# Altium integrated library Linear Technology Power Management Battery Management.IntLib: 626 symbols (part 42 of 56)
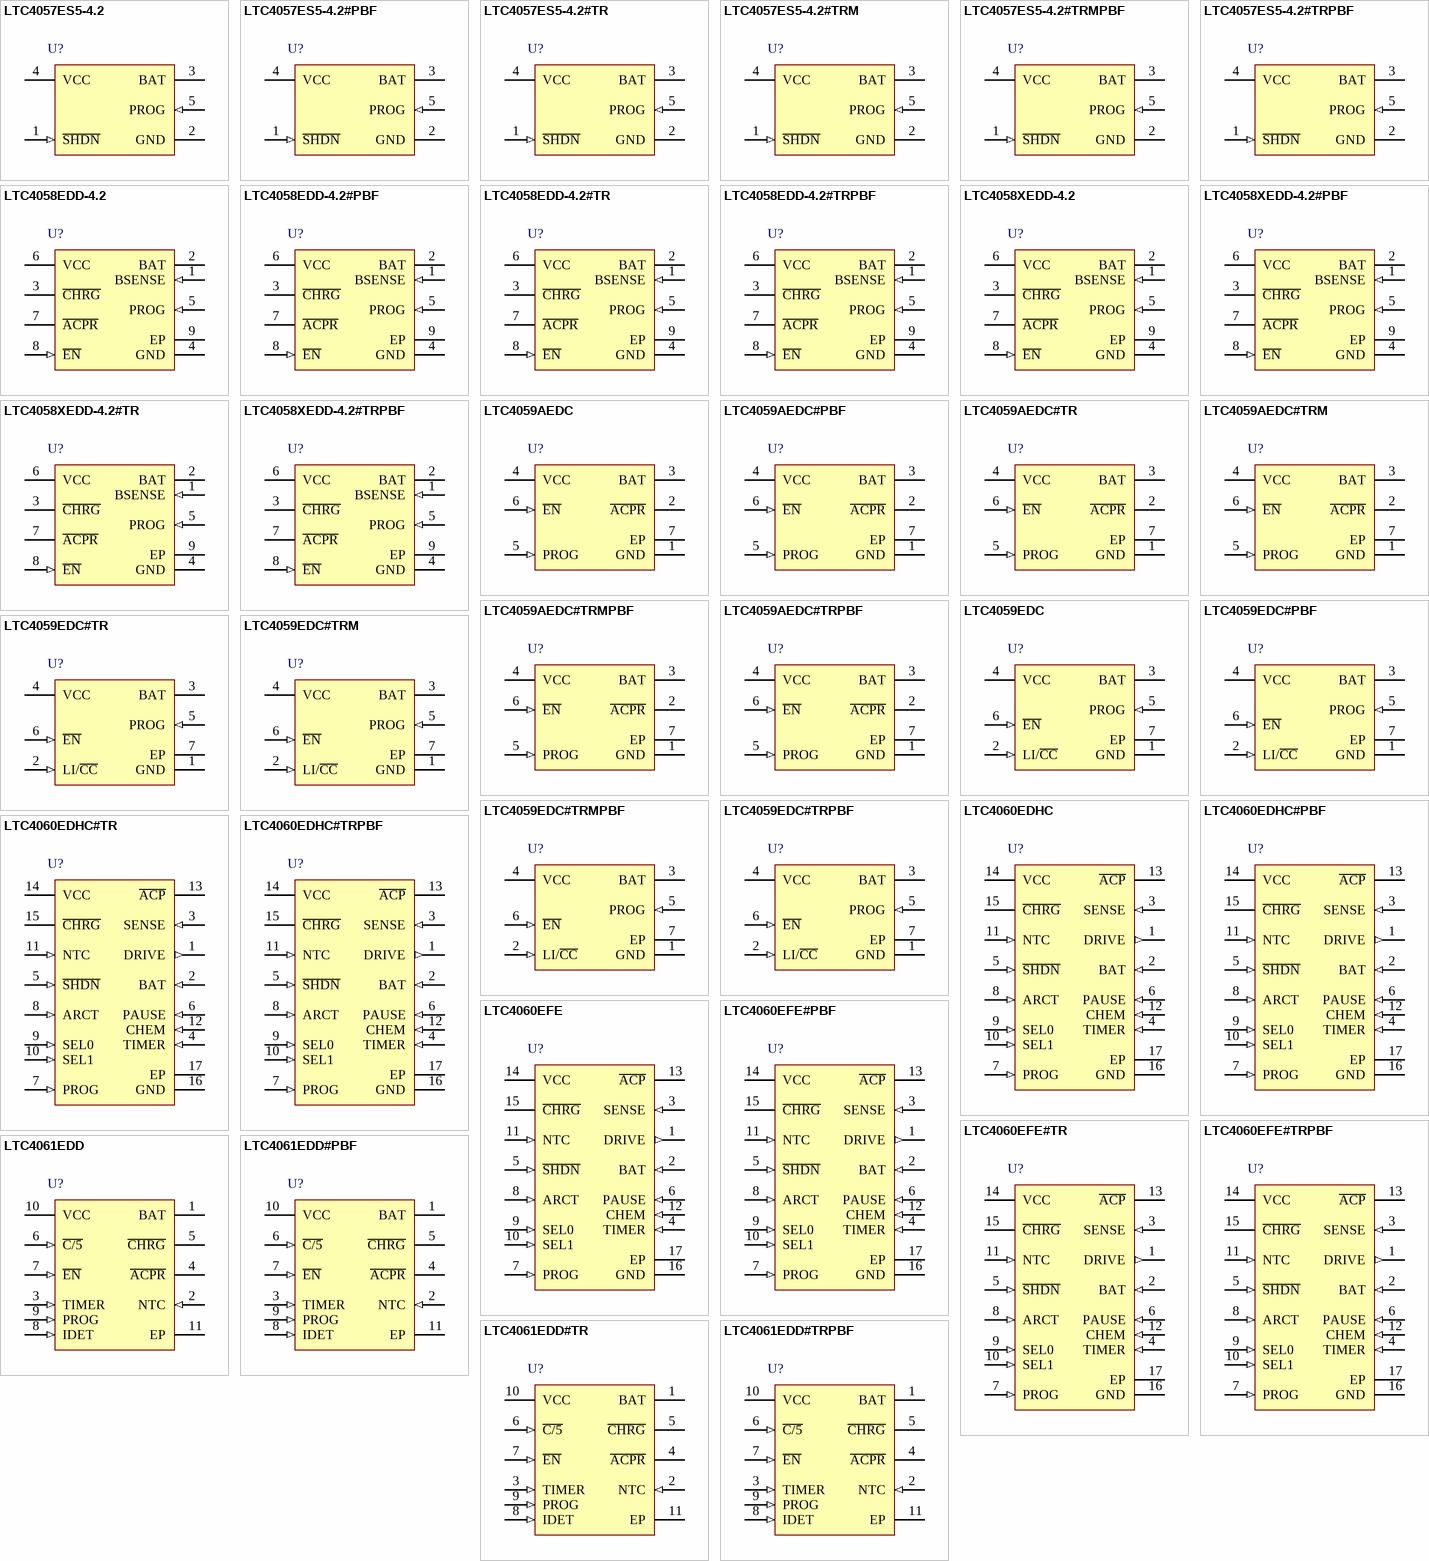
[diagram p63: symbols LTC4057ES5-4.2 to LTC4061EDD#TRPBF]

## LTC4060EDHC#TRPBF
designator U?
Standalone Linear NiMH / NiCd Fast Battery Charger, 4.5 to 10 V Vin, 16-pin SON (DHC-16), -40 to 85 degC, Pb-Free, Tape and Reel; Manufacturer: Linear Technology; PartNumber: LTC4060EDHC#TRPBF; Battery Chemistry: NiCd, NiMH, Lead Acid; Float Voltage: Adj; Max Charge Current(A): 2; Number of Cells: 1 to 4; Vin Max(V): 10; Vin Min(V): 4.5; PackageVersion: Jun-10; PackageReference: DHC-16; PackageDescription: 16-Pin Plastic DFN, Body 5 x 3 mm, Pitch 0.5 mm; Supplier 1: Digi-Key; Supplier Part Number 1: LTC4060EDHC#TRPBF-ND; Supplier 2: Newark; Supplier Part Number 2: 58M0888; Packing: Tape and Reel; RoHS: TRUE; Type of Charger: Linear; Mounting Technology: Surface Mount; Code_JEDEC: MO-229; ComponentLink1Description: Manufacturer URL; ComponentLink1URL: http://www.linear.com/; ComponentLink2Description: Datasheet; ComponentLink2URL: http://cds.linear.com/docs/en/datasheet/4060f.pdf; ComponentLink3Description: Package Specification; ComponentLink3URL: http://cds.linear.com/docs/en/packaging/DFN_16_05-08-1706.pdf
footprint LT-DHC-16_V (SON, 16-Leads, Body 5x3mm, Pitch 0.5mm, Thermal Pad 4.4X1.65mm)
pins: 1 DRIVE (out) "Base Drive Output for the External PNP Pass Transistor. Provides a controlled sink current that drives the base of the PNP. This pin has current limit protection for the LTC4060.", 2 BAT (in) "Battery Voltage Sense Input Pin. The LTC4060 uses the voltage on this pin to monitor battery voltage and control the battery current during charging. An internal resistor divider is connected to this pin which is (See Datasheet)", 3 SENSE (in) "Charge Current Sense Node Input. Current from VCC passes through the internal current sense resistor and reappears at the SENSE pin to supply current to the external PNP emitter. The PNP collector provides charge current (See Datasheet)", 4 TIMER (in) "Charge Timer Input. A capacitor connected between TIMER and GND along with a resistor connected from PROG to GND programs the charge cycle timing limits.", 5 ~{SHDN} (in) "Active Low Shutdown Control Logic Input. When pulled low, charging stops and the LTC4060 supply current is minimized.", 6 PAUSE (in) "Pause Enable Logic Input. The charger can be paused, turning off the charge current, disabling termination and stopping the timer when this pin is high. A low level will resume the charging process.", 7 PROG (in) "Charge Current Programming Input. Provides a virtual reference of 1.5V for an external resistor (RPROG) tied between this pin and GND that programs the battery charge current. The fast charge current will be 930 times the (See Datasheet)", 8 ARCT (in) "Autorecharge Threshold Programming Input. When the average cell voltage falls below this threshold, charging is reinitiated. The voltage on this pin is conveniently derived by using two series PROG pin resistors and (See Datasheet)", 9 SEL0 (in) "Number of Cells Selection Logic Input. For single cell, connect both pins to GND. For two cells, connect SEL1 to GND and SEL0 to VCC. For three cells, SEL1 connects to VCC and SEL0 to GND. For four cells, connect both pins (See Datasheet)", 10 SEL1 (in) "Number of Cells Selection Logic Input. For single cell, connect both pins to GND. For two cells, connect SEL1 to GND and SEL0 to VCC. For three cells, SEL1 connects to VCC and SEL0 to GND. For four cells, connect both pins (See Datasheet)", 11 NTC (in) "Battery Temperature Input. An external NTC thermistor network may be connected to NTC to provide temperature-based charge qualification. Connecting NTC to GND inhibits this function.", 12 CHEM (in) "Battery Chemistry Selection Logic Input. When connected to a high level NiCd fast charge -deltaV termination parameters are used. A low level selects NiMH parameters.", 13 ~{ACP} (hiz) "Open-Drain Power Supply Status Output. When VCC is greater than the undervoltage lockout threshold, the A\C\P\ pin will pull to ground. Otherwise the pin is high impedance. This output is capable of driving an LED.", 14 VCC (power) "Power Input. This pin can be bypassed to ground with a capacitance of 1uF.", 15 ~{CHRG} (hiz) "Open-Drain Charge Indicator Status Output. The LTC4060 indicates it is providing charge to the battery by driving this pin to GND. If charging is paused or suspended due to abnormal battery temperature, the pin remains (See Datasheet)", 16 GND (power) "Ground. This pin provides a ground for the internal voltage reference and other circuits. All voltage thresholds are referenced to this pin.", 17 EP (power) "Thermal Connection. Internally connected to GND. Solder to PCB ground for optimum thermal performance."

## LTC4060EFE
designator U?
Standalone Linear NiMH / NiCd Fast Battery Charger, 4.5 to 10 V Vin, 16-pin SOP (FE-16-EPV-BC), -40 to 85 degC; Manufacturer: Linear Technology; PartNumber: LTC4060EFE; Battery Chemistry: NiCd, NiMH, Lead Acid; Float Voltage: Adj; Max Charge Current(A): 2; Number of Cells: 1 to 4; Vin Max(V): 10; Vin Min(V): 4.5; PackageVersion: Rev. J, 11/2012; PackageReference: FE-16; PackageDescription: 16-Pin Plastic TSSOP, Body 5 x 4.4 mm, Pitch 0.65 mm; Supplier 1: Newark; Supplier Part Number 1: 56M8671; RoHS: FALSE; Type of Charger: Linear; Mounting Technology: Surface Mount; ComponentLink1Description: Manufacturer URL; ComponentLink1URL: http://www.linear.com/; ComponentLink2Description: Datasheet; ComponentLink2URL: http://cds.linear.com/docs/en/datasheet/4060f.pdf; ComponentLink3Description: Package Specification; ComponentLink3URL: http://cds.linear.com/docs/en/packaging/05081663__J_FE16(BC).pdf
footprint LT-FE-16-EPV-BC_N (SOP, 16-Leads, Body 5.1x4.5mm, Pitch 0.65mm, Thermal Pad 3.58x2.94mm, IPC Medium Density)
footprint LT-FE-16-EPV-BC_L (SOP, 16-Leads, Body 5.1x4.5mm, Pitch 0.65mm, Thermal Pad 3.58x2.94mm, IPC High Density)
footprint LT-FE-16-EPV-BC_M (SOP, 16-Leads, Body 5.1x4.5mm, Pitch 0.65mm, Thermal Pad 3.58x2.94mm, IPC Low Density)
pins: 1 DRIVE (out) "Base Drive Output for the External PNP Pass Transistor. Provides a controlled sink current that drives the base of the PNP. This pin has current limit protection for the LTC4060.", 2 BAT (in) "Battery Voltage Sense Input Pin. The LTC4060 uses the voltage on this pin to monitor battery voltage and control the battery current during charging. An internal resistor divider is connected to this pin which is (See Datasheet)", 3 SENSE (in) "Charge Current Sense Node Input. Current from VCC passes through the internal current sense resistor and reappears at the SENSE pin to supply current to the external PNP emitter. The PNP collector provides charge current (See Datasheet)", 4 TIMER (in) "Charge Timer Input. A capacitor connected between TIMER and GND along with a resistor connected from PROG to GND programs the charge cycle timing limits.", 5 ~{SHDN} (in) "Active Low Shutdown Control Logic Input. When pulled low, charging stops and the LTC4060 supply current is minimized.", 6 PAUSE (in) "Pause Enable Logic Input. The charger can be paused, turning off the charge current, disabling termination and stopping the timer when this pin is high. A low level will resume the charging process.", 7 PROG (in) "Charge Current Programming Input. Provides a virtual reference of 1.5V for an external resistor (RPROG) tied between this pin and GND that programs the battery charge current. The fast charge current will be 930 times the (See Datasheet)", 8 ARCT (in) "Autorecharge Threshold Programming Input. When the average cell voltage falls below this threshold, charging is reinitiated. The voltage on this pin is conveniently derived by using two series PROG pin resistors and (See Datasheet)", 9 SEL0 (in) "Number of Cells Selection Logic Input. For single cell, connect both pins to GND. For two cells, connect SEL1 to GND and SEL0 to VCC. For three cells, SEL1 connects to VCC and SEL0 to GND. For four cells, connect both pins (See Datasheet)", 10 SEL1 (in) "Number of Cells Selection Logic Input. For single cell, connect both pins to GND. For two cells, connect SEL1 to GND and SEL0 to VCC. For three cells, SEL1 connects to VCC and SEL0 to GND. For four cells, connect both pins (See Datasheet)", 11 NTC (in) "Battery Temperature Input. An external NTC thermistor network may be connected to NTC to provide temperature-based charge qualification. Connecting NTC to GND inhibits this function.", 12 CHEM (in) "Battery Chemistry Selection Logic Input. When connected to a high level NiCd fast charge -deltaV termination parameters are used. A low level selects NiMH parameters.", 13 ~{ACP} (hiz) "Open-Drain Power Supply Status Output. When VCC is greater than the undervoltage lockout threshold, the A\C\P\ pin will pull to ground. Otherwise the pin is high impedance. This output is capable of driving an LED.", 14 VCC (power) "Power Input. This pin can be bypassed to ground with a capacitance of 1uF.", 15 ~{CHRG} (hiz) "Open-Drain Charge Indicator Status Output. The LTC4060 indicates it is providing charge to the battery by driving this pin to GND. If charging is paused or suspended due to abnormal battery temperature, the pin remains (See Datasheet)", 16 GND (power) "Ground. This pin provides a ground for the internal voltage reference and other circuits. All voltage thresholds are referenced to this pin.", 17 EP (power) "Thermal Connection. Internally connected to GND. Solder to PCB ground for optimum thermal performance."

## LTC4060EFE#PBF
designator U?
Standalone Linear NiMH / NiCd Fast Battery Charger, 4.5 to 10 V Vin, 16-pin SOP (FE-16-EPV-BC), -40 to 85 degC, Pb-Free; Manufacturer: Linear Technology; PartNumber: LTC4060EFE#PBF; Battery Chemistry: NiCd, NiMH, Lead Acid; Float Voltage: Adj; Max Charge Current(A): 2; Number of Cells: 1 to 4; Vin Max(V): 10; Vin Min(V): 4.5; PackageVersion: Rev. J, 11/2012; PackageReference: FE-16; PackageDescription: 16-Pin Plastic TSSOP, Body 5 x 4.4 mm, Pitch 0.65 mm; Supplier 1: Digi-Key; Supplier Part Number 1: LTC4060EFE#PBF-ND; Supplier 2: Farnell; Supplier Part Number 2: 1273986; Supplier 3: Newark; Supplier Part Number 3: 56M8672; RoHS: TRUE; Type of Charger: Linear; Mounting Technology: Surface Mount; ComponentLink1Description: Manufacturer URL; ComponentLink1URL: http://www.linear.com/; ComponentLink2Description: Datasheet; ComponentLink2URL: http://cds.linear.com/docs/en/datasheet/4060f.pdf; ComponentLink3Description: Package Specification; ComponentLink3URL: http://cds.linear.com/docs/en/packaging/05081663__J_FE16(BC).pdf
footprint LT-FE-16-EPV-BC_N (SOP, 16-Leads, Body 5.1x4.5mm, Pitch 0.65mm, Thermal Pad 3.58x2.94mm, IPC Medium Density)
footprint LT-FE-16-EPV-BC_L (SOP, 16-Leads, Body 5.1x4.5mm, Pitch 0.65mm, Thermal Pad 3.58x2.94mm, IPC High Density)
footprint LT-FE-16-EPV-BC_M (SOP, 16-Leads, Body 5.1x4.5mm, Pitch 0.65mm, Thermal Pad 3.58x2.94mm, IPC Low Density)
pins: 1 DRIVE (out) "Base Drive Output for the External PNP Pass Transistor. Provides a controlled sink current that drives the base of the PNP. This pin has current limit protection for the LTC4060.", 2 BAT (in) "Battery Voltage Sense Input Pin. The LTC4060 uses the voltage on this pin to monitor battery voltage and control the battery current during charging. An internal resistor divider is connected to this pin which is (See Datasheet)", 3 SENSE (in) "Charge Current Sense Node Input. Current from VCC passes through the internal current sense resistor and reappears at the SENSE pin to supply current to the external PNP emitter. The PNP collector provides charge current (See Datasheet)", 4 TIMER (in) "Charge Timer Input. A capacitor connected between TIMER and GND along with a resistor connected from PROG to GND programs the charge cycle timing limits.", 5 ~{SHDN} (in) "Active Low Shutdown Control Logic Input. When pulled low, charging stops and the LTC4060 supply current is minimized.", 6 PAUSE (in) "Pause Enable Logic Input. The charger can be paused, turning off the charge current, disabling termination and stopping the timer when this pin is high. A low level will resume the charging process.", 7 PROG (in) "Charge Current Programming Input. Provides a virtual reference of 1.5V for an external resistor (RPROG) tied between this pin and GND that programs the battery charge current. The fast charge current will be 930 times the (See Datasheet)", 8 ARCT (in) "Autorecharge Threshold Programming Input. When the average cell voltage falls below this threshold, charging is reinitiated. The voltage on this pin is conveniently derived by using two series PROG pin resistors and (See Datasheet)", 9 SEL0 (in) "Number of Cells Selection Logic Input. For single cell, connect both pins to GND. For two cells, connect SEL1 to GND and SEL0 to VCC. For three cells, SEL1 connects to VCC and SEL0 to GND. For four cells, connect both pins (See Datasheet)", 10 SEL1 (in) "Number of Cells Selection Logic Input. For single cell, connect both pins to GND. For two cells, connect SEL1 to GND and SEL0 to VCC. For three cells, SEL1 connects to VCC and SEL0 to GND. For four cells, connect both pins (See Datasheet)", 11 NTC (in) "Battery Temperature Input. An external NTC thermistor network may be connected to NTC to provide temperature-based charge qualification. Connecting NTC to GND inhibits this function.", 12 CHEM (in) "Battery Chemistry Selection Logic Input. When connected to a high level NiCd fast charge -deltaV termination parameters are used. A low level selects NiMH parameters.", 13 ~{ACP} (hiz) "Open-Drain Power Supply Status Output. When VCC is greater than the undervoltage lockout threshold, the A\C\P\ pin will pull to ground. Otherwise the pin is high impedance. This output is capable of driving an LED.", 14 VCC (power) "Power Input. This pin can be bypassed to ground with a capacitance of 1uF.", 15 ~{CHRG} (hiz) "Open-Drain Charge Indicator Status Output. The LTC4060 indicates it is providing charge to the battery by driving this pin to GND. If charging is paused or suspended due to abnormal battery temperature, the pin remains (See Datasheet)", 16 GND (power) "Ground. This pin provides a ground for the internal voltage reference and other circuits. All voltage thresholds are referenced to this pin.", 17 EP (power) "Thermal Connection. Internally connected to GND. Solder to PCB ground for optimum thermal performance."

## LTC4060EFE#TR
designator U?
Standalone Linear NiMH / NiCd Fast Battery Charger, 4.5 to 10 V Vin, 16-pin SOP (FE-16-EPV-BC), -40 to 85 degC, Tape and Reel; Manufacturer: Linear Technology; PartNumber: LTC4060EFE#TR; Battery Chemistry: NiCd, NiMH, Lead Acid; Float Voltage: Adj; Max Charge Current(A): 2; Number of Cells: 1 to 4; Vin Max(V): 10; Vin Min(V): 4.5; PackageVersion: Rev. J, 11/2012; PackageReference: FE-16; PackageDescription: 16-Pin Plastic TSSOP, Body 5 x 4.4 mm, Pitch 0.65 mm; Packing: Tape and Reel; RoHS: FALSE; Type of Charger: Linear; Mounting Technology: Surface Mount; ComponentLink1Description: Manufacturer URL; ComponentLink1URL: http://www.linear.com/; ComponentLink2Description: Datasheet; ComponentLink2URL: http://cds.linear.com/docs/en/datasheet/4060f.pdf; ComponentLink3Description: Package Specification; ComponentLink3URL: http://cds.linear.com/docs/en/packaging/05081663__J_FE16(BC).pdf
footprint LT-FE-16-EPV-BC_N (SOP, 16-Leads, Body 5.1x4.5mm, Pitch 0.65mm, Thermal Pad 3.58x2.94mm, IPC Medium Density)
footprint LT-FE-16-EPV-BC_L (SOP, 16-Leads, Body 5.1x4.5mm, Pitch 0.65mm, Thermal Pad 3.58x2.94mm, IPC High Density)
footprint LT-FE-16-EPV-BC_M (SOP, 16-Leads, Body 5.1x4.5mm, Pitch 0.65mm, Thermal Pad 3.58x2.94mm, IPC Low Density)
pins: 1 DRIVE (out) "Base Drive Output for the External PNP Pass Transistor. Provides a controlled sink current that drives the base of the PNP. This pin has current limit protection for the LTC4060.", 2 BAT (in) "Battery Voltage Sense Input Pin. The LTC4060 uses the voltage on this pin to monitor battery voltage and control the battery current during charging. An internal resistor divider is connected to this pin which is (See Datasheet)", 3 SENSE (in) "Charge Current Sense Node Input. Current from VCC passes through the internal current sense resistor and reappears at the SENSE pin to supply current to the external PNP emitter. The PNP collector provides charge current (See Datasheet)", 4 TIMER (in) "Charge Timer Input. A capacitor connected between TIMER and GND along with a resistor connected from PROG to GND programs the charge cycle timing limits.", 5 ~{SHDN} (in) "Active Low Shutdown Control Logic Input. When pulled low, charging stops and the LTC4060 supply current is minimized.", 6 PAUSE (in) "Pause Enable Logic Input. The charger can be paused, turning off the charge current, disabling termination and stopping the timer when this pin is high. A low level will resume the charging process.", 7 PROG (in) "Charge Current Programming Input. Provides a virtual reference of 1.5V for an external resistor (RPROG) tied between this pin and GND that programs the battery charge current. The fast charge current will be 930 times the (See Datasheet)", 8 ARCT (in) "Autorecharge Threshold Programming Input. When the average cell voltage falls below this threshold, charging is reinitiated. The voltage on this pin is conveniently derived by using two series PROG pin resistors and (See Datasheet)", 9 SEL0 (in) "Number of Cells Selection Logic Input. For single cell, connect both pins to GND. For two cells, connect SEL1 to GND and SEL0 to VCC. For three cells, SEL1 connects to VCC and SEL0 to GND. For four cells, connect both pins (See Datasheet)", 10 SEL1 (in) "Number of Cells Selection Logic Input. For single cell, connect both pins to GND. For two cells, connect SEL1 to GND and SEL0 to VCC. For three cells, SEL1 connects to VCC and SEL0 to GND. For four cells, connect both pins (See Datasheet)", 11 NTC (in) "Battery Temperature Input. An external NTC thermistor network may be connected to NTC to provide temperature-based charge qualification. Connecting NTC to GND inhibits this function.", 12 CHEM (in) "Battery Chemistry Selection Logic Input. When connected to a high level NiCd fast charge -deltaV termination parameters are used. A low level selects NiMH parameters.", 13 ~{ACP} (hiz) "Open-Drain Power Supply Status Output. When VCC is greater than the undervoltage lockout threshold, the A\C\P\ pin will pull to ground. Otherwise the pin is high impedance. This output is capable of driving an LED.", 14 VCC (power) "Power Input. This pin can be bypassed to ground with a capacitance of 1uF.", 15 ~{CHRG} (hiz) "Open-Drain Charge Indicator Status Output. The LTC4060 indicates it is providing charge to the battery by driving this pin to GND. If charging is paused or suspended due to abnormal battery temperature, the pin remains (See Datasheet)", 16 GND (power) "Ground. This pin provides a ground for the internal voltage reference and other circuits. All voltage thresholds are referenced to this pin.", 17 EP (power) "Thermal Connection. Internally connected to GND. Solder to PCB ground for optimum thermal performance."

## LTC4060EFE#TRPBF
designator U?
Standalone Linear NiMH / NiCd Fast Battery Charger, 4.5 to 10 V Vin, 16-pin SOP (FE-16-EPV-BC), -40 to 85 degC, Pb-Free, Tape and Reel; Manufacturer: Linear Technology; PartNumber: LTC4060EFE#TRPBF; Battery Chemistry: NiCd, NiMH, Lead Acid; Float Voltage: Adj; Max Charge Current(A): 2; Number of Cells: 1 to 4; Vin Max(V): 10; Vin Min(V): 4.5; PackageVersion: Rev. J, 11/2012; PackageReference: FE-16; PackageDescription: 16-Pin Plastic TSSOP, Body 5 x 4.4 mm, Pitch 0.65 mm; Supplier 1: Digi-Key; Supplier Part Number 1: LTC4060EFE#TRPBF-ND; Packing: Tape and Reel; RoHS: TRUE; Type of Charger: Linear; Mounting Technology: Surface Mount; ComponentLink1Description: Manufacturer URL; ComponentLink1URL: http://www.linear.com/; ComponentLink2Description: Datasheet; ComponentLink2URL: http://cds.linear.com/docs/en/datasheet/4060f.pdf; ComponentLink3Description: Package Specification; ComponentLink3URL: http://cds.linear.com/docs/en/packaging/05081663__J_FE16(BC).pdf
footprint LT-FE-16-EPV-BC_N (SOP, 16-Leads, Body 5.1x4.5mm, Pitch 0.65mm, Thermal Pad 3.58x2.94mm, IPC Medium Density)
footprint LT-FE-16-EPV-BC_L (SOP, 16-Leads, Body 5.1x4.5mm, Pitch 0.65mm, Thermal Pad 3.58x2.94mm, IPC High Density)
footprint LT-FE-16-EPV-BC_M (SOP, 16-Leads, Body 5.1x4.5mm, Pitch 0.65mm, Thermal Pad 3.58x2.94mm, IPC Low Density)
pins: 1 DRIVE (out) "Base Drive Output for the External PNP Pass Transistor. Provides a controlled sink current that drives the base of the PNP. This pin has current limit protection for the LTC4060.", 2 BAT (in) "Battery Voltage Sense Input Pin. The LTC4060 uses the voltage on this pin to monitor battery voltage and control the battery current during charging. An internal resistor divider is connected to this pin which is (See Datasheet)", 3 SENSE (in) "Charge Current Sense Node Input. Current from VCC passes through the internal current sense resistor and reappears at the SENSE pin to supply current to the external PNP emitter. The PNP collector provides charge current (See Datasheet)", 4 TIMER (in) "Charge Timer Input. A capacitor connected between TIMER and GND along with a resistor connected from PROG to GND programs the charge cycle timing limits.", 5 ~{SHDN} (in) "Active Low Shutdown Control Logic Input. When pulled low, charging stops and the LTC4060 supply current is minimized.", 6 PAUSE (in) "Pause Enable Logic Input. The charger can be paused, turning off the charge current, disabling termination and stopping the timer when this pin is high. A low level will resume the charging process.", 7 PROG (in) "Charge Current Programming Input. Provides a virtual reference of 1.5V for an external resistor (RPROG) tied between this pin and GND that programs the battery charge current. The fast charge current will be 930 times the (See Datasheet)", 8 ARCT (in) "Autorecharge Threshold Programming Input. When the average cell voltage falls below this threshold, charging is reinitiated. The voltage on this pin is conveniently derived by using two series PROG pin resistors and (See Datasheet)", 9 SEL0 (in) "Number of Cells Selection Logic Input. For single cell, connect both pins to GND. For two cells, connect SEL1 to GND and SEL0 to VCC. For three cells, SEL1 connects to VCC and SEL0 to GND. For four cells, connect both pins (See Datasheet)", 10 SEL1 (in) "Number of Cells Selection Logic Input. For single cell, connect both pins to GND. For two cells, connect SEL1 to GND and SEL0 to VCC. For three cells, SEL1 connects to VCC and SEL0 to GND. For four cells, connect both pins (See Datasheet)", 11 NTC (in) "Battery Temperature Input. An external NTC thermistor network may be connected to NTC to provide temperature-based charge qualification. Connecting NTC to GND inhibits this function.", 12 CHEM (in) "Battery Chemistry Selection Logic Input. When connected to a high level NiCd fast charge -deltaV termination parameters are used. A low level selects NiMH parameters.", 13 ~{ACP} (hiz) "Open-Drain Power Supply Status Output. When VCC is greater than the undervoltage lockout threshold, the A\C\P\ pin will pull to ground. Otherwise the pin is high impedance. This output is capable of driving an LED.", 14 VCC (power) "Power Input. This pin can be bypassed to ground with a capacitance of 1uF.", 15 ~{CHRG} (hiz) "Open-Drain Charge Indicator Status Output. The LTC4060 indicates it is providing charge to the battery by driving this pin to GND. If charging is paused or suspended due to abnormal battery temperature, the pin remains (See Datasheet)", 16 GND (power) "Ground. This pin provides a ground for the internal voltage reference and other circuits. All voltage thresholds are referenced to this pin.", 17 EP (power) "Thermal Connection. Internally connected to GND. Solder to PCB ground for optimum thermal performance."

## LTC4061EDD
designator U?
Standalone Linear Li-Ion Battery Charger with Thermistor Input, 4.3 to 8 V Vin, 10-pin SON (DD-10), -40 to 85 degC; Manufacturer: Linear Technology; PartNumber: LTC4061EDD; Battery Chemistry: Li-Ion, Li-Polymer; Charge Termination: On-board timer, C/10, C/x; Float Voltage: 4.2 V; Max Charge Current(A): 1; Vin Max(V): 8; Vin Min(V): 4.3; DatasheetVersion: Rev. D; PackageVersion: Rev. C, 06/2010; PackageReference: DD-10; PackageDescription: 10-Pin Plastic DFN, Body 3 x 3 mm, Pitch 0.5 mm; Number of Cells: 1; RoHS: FALSE; Type of Charger: Linear; Mounting Technology: Surface Mount; Code_JEDEC: MO-229; ComponentLink1Description: Manufacturer URL; ComponentLink1URL: http://www.linear.com/; ComponentLink2Description: Datasheet; ComponentLink2URL: http://cds.linear.com/docs/en/datasheet/4061fd.pdf; ComponentLink3Description: Package Specification; ComponentLink3URL: http://cds.linear.com/docs/en/packaging/DFN_10_05-08-1699.pdf
footprint LT-DD-10_V (SON, 10-Leads, Body 3x3mm, Pitch 0.5mm, Thermal Pad 2.38x1.65mm)
pins: 1 BAT (power), 2 NTC (in) "Input to the NTC (Negative Temperature Coefficient) Thermistor Temperature Monitoring Circuit. Under normal operation, connect a thermistor from the NTC pin to ground and a resistor of equal value from the NTC pin to VCC. (See Datasheet)", 3 TIMER (in) "Timer Program and Termination Select Pin. This pin selects which method is used to terminate the charge cycle. Connecting a capacitor, CTIMER, to ground selects charge time termination.", 4 ~{ACPR} (hiz) "Open-Drain Power Supply Present Status Output. The power supply status indicator pin has two states: pull-down and high impedance. This output can be used as a logic interface or as a LED driver. In the pull-down state, an (See Datasheet)", 5 ~{CHRG} (hiz), 6 ~{C/5} (in), 7 ~{EN} (in) "Charger Enable Input. A logic high on the E\N\ pin places the charger into shutdown mode, where the input quiescent current is less than 50uA. A logic low on this pin enables charging. An internal 3Mohm pull-down resistor to (See Datasheet)", 8 IDET (in) "Current Detection Threshold Program Pin. The current detection threshold, IDETECT, is set by connecting a resistor, RDETECT, to ground.", 9 PROG (in) "Charge Current Program and Charge Current Monitor. The charge current is set by connecting a resistor, RPROG, to ground. When charging in constant current mode, this pin servos to 1V.", 10 VCC (power) "Positive Input Supply Voltage. Provides power to the battery charger. This pin should be bypassed with a 1uF capacitor.", 11 EP (power)

## LTC4061EDD#PBF
designator U?
Standalone Linear Li-Ion Battery Charger with Thermistor Input, 4.3 to 8 V Vin, 10-pin SON (DD-10), -40 to 85 degC, Pb-Free; Manufacturer: Linear Technology; PartNumber: LTC4061EDD#PBF; Battery Chemistry: Li-Ion, Li-Polymer; Charge Termination: On-board timer, C/10, C/x; Float Voltage: 4.2 V; Max Charge Current(A): 1; Vin Max(V): 8; Vin Min(V): 4.3; DatasheetVersion: Rev. D; PackageVersion: Rev. C, 06/2010; PackageReference: DD-10; PackageDescription: 10-Pin Plastic DFN, Body 3 x 3 mm, Pitch 0.5 mm; Supplier 1: Digi-Key; Supplier Part Number 1: LTC4061EDD#PBF-ND; Supplier 2: Farnell; Supplier Part Number 2: 1648035; Supplier 3: Newark; Supplier Part Number 3: 58M0896; Number of Cells: 1; RoHS: TRUE; Type of Charger: Linear; Mounting Technology: Surface Mount; Code_JEDEC: MO-229; ComponentLink1Description: Manufacturer URL; ComponentLink1URL: http://www.linear.com/; ComponentLink2Description: Datasheet; ComponentLink2URL: http://cds.linear.com/docs/en/datasheet/4061fd.pdf; ComponentLink3Description: Package Specification; ComponentLink3URL: http://cds.linear.com/docs/en/packaging/DFN_10_05-08-1699.pdf
footprint LT-DD-10_V (SON, 10-Leads, Body 3x3mm, Pitch 0.5mm, Thermal Pad 2.38x1.65mm)
pins: 1 BAT (power), 2 NTC (in) "Input to the NTC (Negative Temperature Coefficient) Thermistor Temperature Monitoring Circuit. Under normal operation, connect a thermistor from the NTC pin to ground and a resistor of equal value from the NTC pin to VCC. (See Datasheet)", 3 TIMER (in) "Timer Program and Termination Select Pin. This pin selects which method is used to terminate the charge cycle. Connecting a capacitor, CTIMER, to ground selects charge time termination.", 4 ~{ACPR} (hiz) "Open-Drain Power Supply Present Status Output. The power supply status indicator pin has two states: pull-down and high impedance. This output can be used as a logic interface or as a LED driver. In the pull-down state, an (See Datasheet)", 5 ~{CHRG} (hiz), 6 ~{C/5} (in), 7 ~{EN} (in) "Charger Enable Input. A logic high on the E\N\ pin places the charger into shutdown mode, where the input quiescent current is less than 50uA. A logic low on this pin enables charging. An internal 3Mohm pull-down resistor to (See Datasheet)", 8 IDET (in) "Current Detection Threshold Program Pin. The current detection threshold, IDETECT, is set by connecting a resistor, RDETECT, to ground.", 9 PROG (in) "Charge Current Program and Charge Current Monitor. The charge current is set by connecting a resistor, RPROG, to ground. When charging in constant current mode, this pin servos to 1V.", 10 VCC (power) "Positive Input Supply Voltage. Provides power to the battery charger. This pin should be bypassed with a 1uF capacitor.", 11 EP (power)

## LTC4061EDD#TR
designator U?
Standalone Linear Li-Ion Battery Charger with Thermistor Input, 4.3 to 8 V Vin, 10-pin SON (DD-10), -40 to 85 degC, Tape and Reel; Manufacturer: Linear Technology; PartNumber: LTC4061EDD#TR; Battery Chemistry: Li-Ion, Li-Polymer; Charge Termination: On-board timer, C/10, C/x; Float Voltage: 4.2 V; Max Charge Current(A): 1; Vin Max(V): 8; Vin Min(V): 4.3; DatasheetVersion: Rev. D; PackageVersion: Rev. C, 06/2010; PackageReference: DD-10; PackageDescription: 10-Pin Plastic DFN, Body 3 x 3 mm, Pitch 0.5 mm; Number of Cells: 1; Packing: Tape and Reel; RoHS: FALSE; Type of Charger: Linear; Mounting Technology: Surface Mount; Code_JEDEC: MO-229; ComponentLink1Description: Manufacturer URL; ComponentLink1URL: http://www.linear.com/; ComponentLink2Description: Datasheet; ComponentLink2URL: http://cds.linear.com/docs/en/datasheet/4061fd.pdf; ComponentLink3Description: Package Specification; ComponentLink3URL: http://cds.linear.com/docs/en/packaging/DFN_10_05-08-1699.pdf
footprint LT-DD-10_V (SON, 10-Leads, Body 3x3mm, Pitch 0.5mm, Thermal Pad 2.38x1.65mm)
pins: 1 BAT (power), 2 NTC (in) "Input to the NTC (Negative Temperature Coefficient) Thermistor Temperature Monitoring Circuit. Under normal operation, connect a thermistor from the NTC pin to ground and a resistor of equal value from the NTC pin to VCC. (See Datasheet)", 3 TIMER (in) "Timer Program and Termination Select Pin. This pin selects which method is used to terminate the charge cycle. Connecting a capacitor, CTIMER, to ground selects charge time termination.", 4 ~{ACPR} (hiz) "Open-Drain Power Supply Present Status Output. The power supply status indicator pin has two states: pull-down and high impedance. This output can be used as a logic interface or as a LED driver. In the pull-down state, an (See Datasheet)", 5 ~{CHRG} (hiz), 6 ~{C/5} (in), 7 ~{EN} (in) "Charger Enable Input. A logic high on the E\N\ pin places the charger into shutdown mode, where the input quiescent current is less than 50uA. A logic low on this pin enables charging. An internal 3Mohm pull-down resistor to (See Datasheet)", 8 IDET (in) "Current Detection Threshold Program Pin. The current detection threshold, IDETECT, is set by connecting a resistor, RDETECT, to ground.", 9 PROG (in) "Charge Current Program and Charge Current Monitor. The charge current is set by connecting a resistor, RPROG, to ground. When charging in constant current mode, this pin servos to 1V.", 10 VCC (power) "Positive Input Supply Voltage. Provides power to the battery charger. This pin should be bypassed with a 1uF capacitor.", 11 EP (power)

## LTC4061EDD#TRPBF
designator U?
Standalone Linear Li-Ion Battery Charger with Thermistor Input, 4.3 to 8 V Vin, 10-pin SON (DD-10), -40 to 85 degC, Pb-Free, Tape and Reel; Manufacturer: Linear Technology; PartNumber: LTC4061EDD#TRPBF; Battery Chemistry: Li-Ion, Li-Polymer; Charge Termination: On-board timer, C/10, C/x; Float Voltage: 4.2 V; Max Charge Current(A): 1; Vin Max(V): 8; Vin Min(V): 4.3; DatasheetVersion: Rev. D; PackageVersion: Rev. C, 06/2010; PackageReference: DD-10; PackageDescription: 10-Pin Plastic DFN, Body 3 x 3 mm, Pitch 0.5 mm; Supplier 1: Digi-Key; Supplier Part Number 1: LTC4061EDD#TRPBF-ND; Number of Cells: 1; Packing: Tape and Reel; RoHS: TRUE; Type of Charger: Linear; Mounting Technology: Surface Mount; Code_JEDEC: MO-229; ComponentLink1Description: Manufacturer URL; ComponentLink1URL: http://www.linear.com/; ComponentLink2Description: Datasheet; ComponentLink2URL: http://cds.linear.com/docs/en/datasheet/4061fd.pdf; ComponentLink3Description: Package Specification; ComponentLink3URL: http://cds.linear.com/docs/en/packaging/DFN_10_05-08-1699.pdf
footprint LT-DD-10_V (SON, 10-Leads, Body 3x3mm, Pitch 0.5mm, Thermal Pad 2.38x1.65mm)
pins: 1 BAT (power), 2 NTC (in) "Input to the NTC (Negative Temperature Coefficient) Thermistor Temperature Monitoring Circuit. Under normal operation, connect a thermistor from the NTC pin to ground and a resistor of equal value from the NTC pin to VCC. (See Datasheet)", 3 TIMER (in) "Timer Program and Termination Select Pin. This pin selects which method is used to terminate the charge cycle. Connecting a capacitor, CTIMER, to ground selects charge time termination.", 4 ~{ACPR} (hiz) "Open-Drain Power Supply Present Status Output. The power supply status indicator pin has two states: pull-down and high impedance. This output can be used as a logic interface or as a LED driver. In the pull-down state, an (See Datasheet)", 5 ~{CHRG} (hiz), 6 ~{C/5} (in), 7 ~{EN} (in) "Charger Enable Input. A logic high on the E\N\ pin places the charger into shutdown mode, where the input quiescent current is less than 50uA. A logic low on this pin enables charging. An internal 3Mohm pull-down resistor to (See Datasheet)", 8 IDET (in) "Current Detection Threshold Program Pin. The current detection threshold, IDETECT, is set by connecting a resistor, RDETECT, to ground.", 9 PROG (in) "Charge Current Program and Charge Current Monitor. The charge current is set by connecting a resistor, RPROG, to ground. When charging in constant current mode, this pin servos to 1V.", 10 VCC (power) "Positive Input Supply Voltage. Provides power to the battery charger. This pin should be bypassed with a 1uF capacitor.", 11 EP (power)

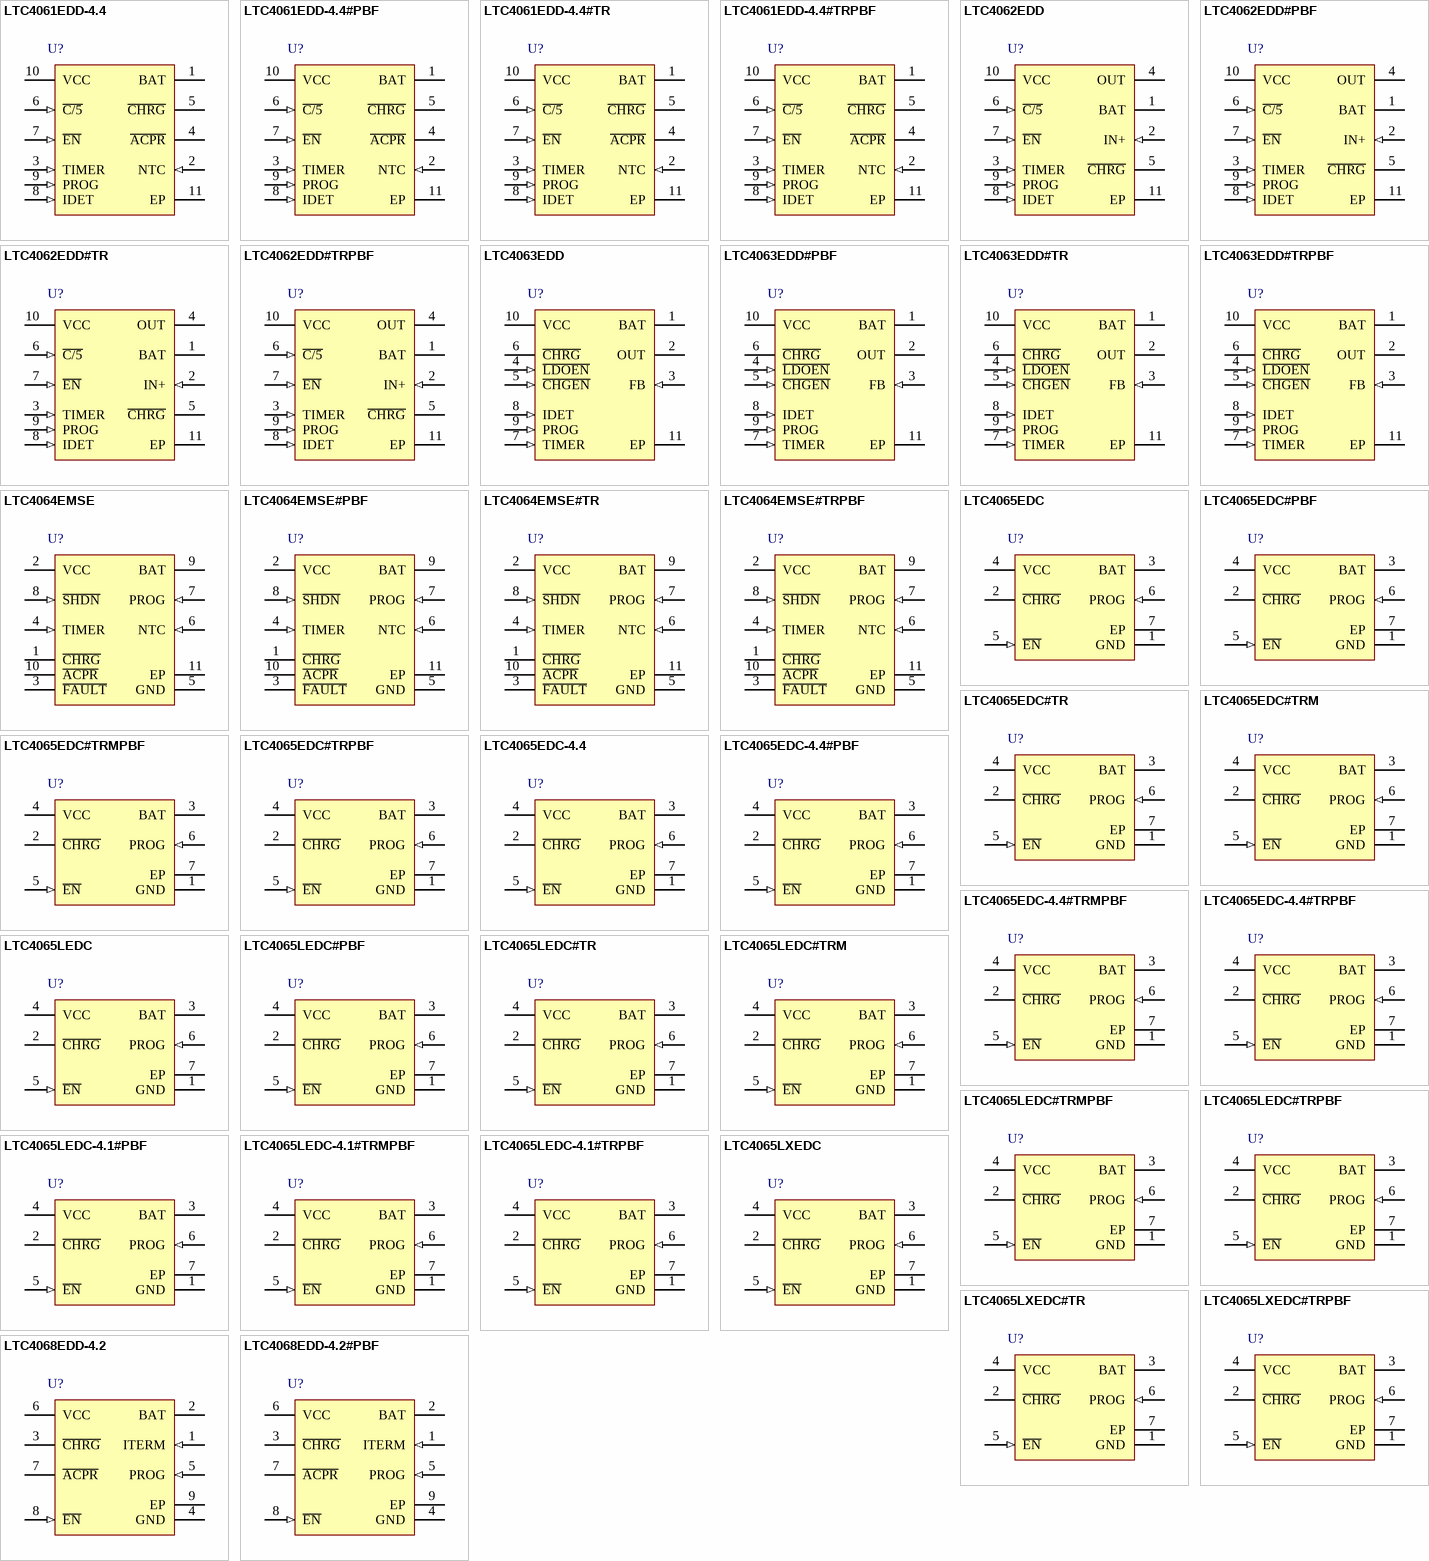
[diagram p17: symbols LTC4061EDD-4.4 to LTC4068EDD-4.2#PBF]

## LTC4061EDD-4.4
designator U?
Standalone Linear Li-Ion Battery Charger with Thermistor Input, 4.5 to 8 V Vin, 10-pin SON (DD-10), -40 to 85 degC; Manufacturer: Linear Technology; PartNumber: LTC4061EDD-4.4; Battery Chemistry: Li-Ion, Li-Polymer; Charge Termination: On-board timer, C/10, C/x; Float Voltage: 4.4 V; Max Charge Current(A): 1; Vin Max(V): 8; Vin Min(V): 4.5; DatasheetVersion: Rev. B; PackageVersion: Rev. C, 06/2010; PackageReference: DD-10; PackageDescription: 10-Pin Plastic DFN, Body 3 x 3 mm, Pitch 0.5 mm; Number of Cells: 1; RoHS: FALSE; Type of Charger: Linear; Mounting Technology: Surface Mount; Code_JEDEC: MO-229; ComponentLink1Description: Manufacturer URL; ComponentLink1URL: http://www.linear.com/; ComponentLink2Description: Datasheet; ComponentLink2URL: http://cds.linear.com/docs/en/datasheet/406144fb.pdf; ComponentLink3Description: Package Specification; ComponentLink3URL: http://cds.linear.com/docs/en/packaging/DFN_10_05-08-1699.pdf
footprint LT-DD-10_V (SON, 10-Leads, Body 3x3mm, Pitch 0.5mm, Thermal Pad 2.38x1.65mm)
pins: 1 BAT (power), 2 NTC (in) "Input to the NTC (Negative Temperature Coefficient) Thermistor Temperature Monitoring Circuit. Under normal operation, connect a thermistor from the NTC pin to ground and a resistor of equal value from the NTC pin to VCC. (See Datasheet)", 3 TIMER (in) "Timer Program and Termination Select Pin. This pin selects which method is used to terminate the charge cycle. Connecting a capacitor, CTIMER, to ground selects charge time termination.", 4 ~{ACPR} (hiz) "Open-Drain Power Supply Present Status Output. The power supply status indicator pin has two states: pull-down and high impedance. This output can be used as a logic interface or as a LED driver. In the pull-down state, an (See Datasheet)", 5 ~{CHRG} (hiz), 6 ~{C/5} (in), 7 ~{EN} (in) "Charger Enable Input. A logic high on the E\N\ pin places the charger into shutdown mode, where the input quiescent current is less than 50uA. A logic low on this pin enables charging. An internal 3Mohm pull-down resistor to (See Datasheet)", 8 IDET (in) "Current Detection Threshold Program Pin. The current detection threshold, IDETECT, is set by connecting a resistor, RDETECT, to ground.", 9 PROG (in) "Charge Current Program and Charge Current Monitor. The charge current is set by connecting a resistor, RPROG, to ground. When charging in constant current mode, this pin servos to 1V.", 10 VCC (power) "Positive Input Supply Voltage. Provides power to the battery charger. This pin should be bypassed with a 1uF capacitor.", 11 EP (power)

## LTC4061EDD-4.4#PBF
designator U?
Standalone Linear Li-Ion Battery Charger with Thermistor Input, 4.5 to 8 V Vin, 10-pin SON (DD-10), -40 to 85 degC, Pb-Free; Manufacturer: Linear Technology; PartNumber: LTC4061EDD-4.4#PBF; Battery Chemistry: Li-Ion, Li-Polymer; Charge Termination: On-board timer, C/10, C/x; Float Voltage: 4.4 V; Max Charge Current(A): 1; Vin Max(V): 8; Vin Min(V): 4.5; DatasheetVersion: Rev. B; PackageVersion: Rev. C, 06/2010; PackageReference: DD-10; PackageDescription: 10-Pin Plastic DFN, Body 3 x 3 mm, Pitch 0.5 mm; Supplier 1: Digi-Key; Supplier Part Number 1: LTC4061EDD-4.4#PBF-ND; Supplier 2: Farnell; Supplier Part Number 2: 1648036; Supplier 3: Newark; Supplier Part Number 3: 58M0893; Number of Cells: 1; RoHS: TRUE; Type of Charger: Linear; Mounting Technology: Surface Mount; Code_JEDEC: MO-229; ComponentLink1Description: Manufacturer URL; ComponentLink1URL: http://www.linear.com/; ComponentLink2Description: Datasheet; ComponentLink2URL: http://cds.linear.com/docs/en/datasheet/406144fb.pdf; ComponentLink3Description: Package Specification; ComponentLink3URL: http://cds.linear.com/docs/en/packaging/DFN_10_05-08-1699.pdf
footprint LT-DD-10_V (SON, 10-Leads, Body 3x3mm, Pitch 0.5mm, Thermal Pad 2.38x1.65mm)
pins: 1 BAT (power), 2 NTC (in) "Input to the NTC (Negative Temperature Coefficient) Thermistor Temperature Monitoring Circuit. Under normal operation, connect a thermistor from the NTC pin to ground and a resistor of equal value from the NTC pin to VCC. (See Datasheet)", 3 TIMER (in) "Timer Program and Termination Select Pin. This pin selects which method is used to terminate the charge cycle. Connecting a capacitor, CTIMER, to ground selects charge time termination.", 4 ~{ACPR} (hiz) "Open-Drain Power Supply Present Status Output. The power supply status indicator pin has two states: pull-down and high impedance. This output can be used as a logic interface or as a LED driver. In the pull-down state, an (See Datasheet)", 5 ~{CHRG} (hiz), 6 ~{C/5} (in), 7 ~{EN} (in) "Charger Enable Input. A logic high on the E\N\ pin places the charger into shutdown mode, where the input quiescent current is less than 50uA. A logic low on this pin enables charging. An internal 3Mohm pull-down resistor to (See Datasheet)", 8 IDET (in) "Current Detection Threshold Program Pin. The current detection threshold, IDETECT, is set by connecting a resistor, RDETECT, to ground.", 9 PROG (in) "Charge Current Program and Charge Current Monitor. The charge current is set by connecting a resistor, RPROG, to ground. When charging in constant current mode, this pin servos to 1V.", 10 VCC (power) "Positive Input Supply Voltage. Provides power to the battery charger. This pin should be bypassed with a 1uF capacitor.", 11 EP (power)

## LTC4061EDD-4.4#TR
designator U?
Standalone Linear Li-Ion Battery Charger with Thermistor Input, 4.5 to 8 V Vin, 10-pin SON (DD-10), -40 to 85 degC, Tape and Reel; Manufacturer: Linear Technology; PartNumber: LTC4061EDD-4.4#TR; Battery Chemistry: Li-Ion, Li-Polymer; Charge Termination: On-board timer, C/10, C/x; Float Voltage: 4.4 V; Max Charge Current(A): 1; Vin Max(V): 8; Vin Min(V): 4.5; DatasheetVersion: Rev. B; PackageVersion: Rev. C, 06/2010; PackageReference: DD-10; PackageDescription: 10-Pin Plastic DFN, Body 3 x 3 mm, Pitch 0.5 mm; Number of Cells: 1; Packing: Tape and Reel; RoHS: FALSE; Type of Charger: Linear; Mounting Technology: Surface Mount; Code_JEDEC: MO-229; ComponentLink1Description: Manufacturer URL; ComponentLink1URL: http://www.linear.com/; ComponentLink2Description: Datasheet; ComponentLink2URL: http://cds.linear.com/docs/en/datasheet/406144fb.pdf; ComponentLink3Description: Package Specification; ComponentLink3URL: http://cds.linear.com/docs/en/packaging/DFN_10_05-08-1699.pdf
footprint LT-DD-10_V (SON, 10-Leads, Body 3x3mm, Pitch 0.5mm, Thermal Pad 2.38x1.65mm)
pins: 1 BAT (power), 2 NTC (in) "Input to the NTC (Negative Temperature Coefficient) Thermistor Temperature Monitoring Circuit. Under normal operation, connect a thermistor from the NTC pin to ground and a resistor of equal value from the NTC pin to VCC. (See Datasheet)", 3 TIMER (in) "Timer Program and Termination Select Pin. This pin selects which method is used to terminate the charge cycle. Connecting a capacitor, CTIMER, to ground selects charge time termination.", 4 ~{ACPR} (hiz) "Open-Drain Power Supply Present Status Output. The power supply status indicator pin has two states: pull-down and high impedance. This output can be used as a logic interface or as a LED driver. In the pull-down state, an (See Datasheet)", 5 ~{CHRG} (hiz), 6 ~{C/5} (in), 7 ~{EN} (in) "Charger Enable Input. A logic high on the E\N\ pin places the charger into shutdown mode, where the input quiescent current is less than 50uA. A logic low on this pin enables charging. An internal 3Mohm pull-down resistor to (See Datasheet)", 8 IDET (in) "Current Detection Threshold Program Pin. The current detection threshold, IDETECT, is set by connecting a resistor, RDETECT, to ground.", 9 PROG (in) "Charge Current Program and Charge Current Monitor. The charge current is set by connecting a resistor, RPROG, to ground. When charging in constant current mode, this pin servos to 1V.", 10 VCC (power) "Positive Input Supply Voltage. Provides power to the battery charger. This pin should be bypassed with a 1uF capacitor.", 11 EP (power)

## LTC4061EDD-4.4#TRPBF
designator U?
Standalone Linear Li-Ion Battery Charger with Thermistor Input, 4.5 to 8 V Vin, 10-pin SON (DD-10), -40 to 85 degC, Pb-Free, Tape and Reel; Manufacturer: Linear Technology; PartNumber: LTC4061EDD-4.4#TRPBF; Battery Chemistry: Li-Ion, Li-Polymer; Charge Termination: On-board timer, C/10, C/x; Float Voltage: 4.4 V; Max Charge Current(A): 1; Vin Max(V): 8; Vin Min(V): 4.5; DatasheetVersion: Rev. B; PackageVersion: Rev. C, 06/2010; PackageReference: DD-10; PackageDescription: 10-Pin Plastic DFN, Body 3 x 3 mm, Pitch 0.5 mm; Supplier 1: Digi-Key; Supplier Part Number 1: LTC4061EDD-4.4#TRPBF-ND; Number of Cells: 1; Packing: Tape and Reel; RoHS: TRUE; Type of Charger: Linear; Mounting Technology: Surface Mount; Code_JEDEC: MO-229; ComponentLink1Description: Manufacturer URL; ComponentLink1URL: http://www.linear.com/; ComponentLink2Description: Datasheet; ComponentLink2URL: http://cds.linear.com/docs/en/datasheet/406144fb.pdf; ComponentLink3Description: Package Specification; ComponentLink3URL: http://cds.linear.com/docs/en/packaging/DFN_10_05-08-1699.pdf
footprint LT-DD-10_V (SON, 10-Leads, Body 3x3mm, Pitch 0.5mm, Thermal Pad 2.38x1.65mm)
pins: 1 BAT (power), 2 NTC (in) "Input to the NTC (Negative Temperature Coefficient) Thermistor Temperature Monitoring Circuit. Under normal operation, connect a thermistor from the NTC pin to ground and a resistor of equal value from the NTC pin to VCC. (See Datasheet)", 3 TIMER (in) "Timer Program and Termination Select Pin. This pin selects which method is used to terminate the charge cycle. Connecting a capacitor, CTIMER, to ground selects charge time termination.", 4 ~{ACPR} (hiz) "Open-Drain Power Supply Present Status Output. The power supply status indicator pin has two states: pull-down and high impedance. This output can be used as a logic interface or as a LED driver. In the pull-down state, an (See Datasheet)", 5 ~{CHRG} (hiz), 6 ~{C/5} (in), 7 ~{EN} (in) "Charger Enable Input. A logic high on the E\N\ pin places the charger into shutdown mode, where the input quiescent current is less than 50uA. A logic low on this pin enables charging. An internal 3Mohm pull-down resistor to (See Datasheet)", 8 IDET (in) "Current Detection Threshold Program Pin. The current detection threshold, IDETECT, is set by connecting a resistor, RDETECT, to ground.", 9 PROG (in) "Charge Current Program and Charge Current Monitor. The charge current is set by connecting a resistor, RPROG, to ground. When charging in constant current mode, this pin servos to 1V.", 10 VCC (power) "Positive Input Supply Voltage. Provides power to the battery charger. This pin should be bypassed with a 1uF capacitor.", 11 EP (power)

## LTC4062EDD
designator U?
Standalone Linear Li-Ion Battery Charger with Micropower Comparator, 4.3 to 8 V Vin, 10-pin SON (DD-10), -40 to 85 degC; Manufacturer: Linear Technology; PartNumber: LTC4062EDD; Battery Chemistry: Li-Ion, Li-Polymer; Charge Termination: C/x, On-board timer, External; Float Voltage: 4.2 V; Max Charge Current(A): 1; Vin Max(V): 8; Vin Min(V): 4.3; DatasheetVersion: Rev. B; PackageVersion: Rev. C, 06/2010; PackageReference: DD-10; PackageDescription: 10-Pin Plastic DFN, Body 3 x 3 mm, Pitch 0.5 mm; Number of Cells: 1; RoHS: FALSE; Type of Charger: Linear; Mounting Technology: Surface Mount; Code_JEDEC: MO-229; ComponentLink1Description: Manufacturer URL; ComponentLink1URL: http://www.linear.com/; ComponentLink2Description: Datasheet; ComponentLink2URL: http://cds.linear.com/docs/en/datasheet/4062fb.pdf; ComponentLink3Description: Package Specification; ComponentLink3URL: http://cds.linear.com/docs/en/packaging/DFN_10_05-08-1699.pdf
footprint LT-DD-10_V (SON, 10-Leads, Body 3x3mm, Pitch 0.5mm, Thermal Pad 2.38x1.65mm)
pins: 1 BAT (power) "Charge Current Output. This pin provides charge current to the battery and regulates the final float voltage to 4.2V.", 2 IN+ (in) "Positive Input of the Micropower Comparator. The negative input is tied internally to a precise bandgap voltage reference of 1V. There is approximately 50mV of hysteresis associated with the input comparator threshold (See Datasheet)", 3 TIMER (in) "Timer Program and Termination Select Pin. This pin selects which method is used to terminate the charge cycle. Connecting a capacitor, CTIMER, to ground selects charge time termination.", 4 OUT (hiz) "Low Power Comparator Open-Drain Output. This comparator output pin has two states; pull-down and high impedance. This output can be used as a logic interface or as an LED driver. In the pull-down state, an NMOS transistor (See Datasheet)", 5 ~{CHRG} (hiz) "Open-Drain Charge Status Output. The charge status indicator pin has three states: pull-down, pulse at 6Hz and high impedance. This output can be used as a logic interface or as a LED driver. In the pull-down state, an NMOS (See Datasheet)", 6 ~{C/5} (in) "C\/\5\ Enable Input. Used to control the amount of current drawn by the charger when powered from a USB port. A logic high on the C\/\5\ pin sets the current limit to 100% of the current programmed by the PROG pin. A logic (See Datasheet)", 7 ~{EN} (in) "Charger Enable Input. A logic high on the E\N\ pin places the charger into shutdown mode, where the input quiescent current is less than 50uA. A logic low on this pin enables charging. An internal 3Mohm pull-down resistor to (See Datasheet)", 8 IDET (in) "Current Detection Threshold Program Pin. The current detection threshold, IDETECT, is set by connecting a resistor, RDETECT, to ground.", 9 PROG (in) "Charge Current Program and Charge Current Monitor. The charge current is set by connecting a resistor, RPROG, to ground. When charging in constant current mode, this pin servos to 1V.", 10 VCC (power) "Positive Input Supply Voltage. Provides power to the battery charger. This pin should be bypassed with a 1uF capacitor.", 11 EP (power) "Ground. This pin is the back of the exposed metal pad package and must be soldered to the PCB copper for minimal thermal resistance."